# EAGLE library part TRF7970ARHBR (library TRF7970ARHBR)
Multi-Protocol Fully Integrated 13.56-MHz NFC / RFID Transceiver IC Source: Datasheet <https://www.ti.com/lit/ds/symlink/trf7970a.pdf?ts=1606905143859&ref_url=https%3A%2F%2Fwww.ti.com%2Fstore%2Fti%2Fen%2Fp%2Fproduct%2F%3Fp%3DTRF7970ARHBR%26keyMatch%3DTRF7970ARHBR%26tisearch%3DSearch-EN-everything%26usecase%>
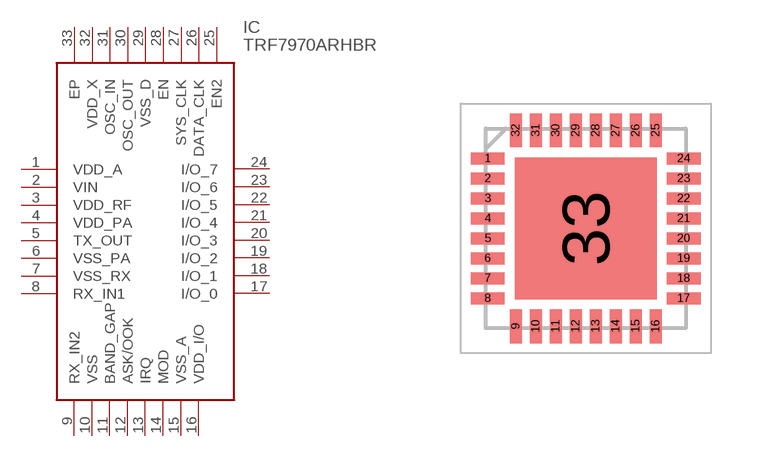
[diagram p0: symbol with the pads of QFN50P500X500X100-33N; footprint QFN50P500X500X100-33N]

Designator prefix IC

## TRF7970ARHBR (Description: Multi-Protocol Fully Integrated 13.56-MHz NFC / RFID Transceiver IC; Height: 1mm; Manufacturer_Name: Texas Instruments; Manufacturer_Part_Number: TRF7970ARHBR; Mouser_Part_Number: 595-TRF7970ARHBR; Mouser_Price-Stock: https://www.mouser.co.uk/ProductDetail/Texas-Instruments/TRF7970ARHBR?qs=4dGAZp5OGt8Af9zmAaD4OQ%3D%3D)  [QFN50P500X500X100-33N]
1  VDD_A
2  VIN
3  VDD_RF
4  VDD_PA
5  TX_OUT
6  VSS_PA
7  VSS_RX
8  RX_IN1
9  RX_IN2
10  VSS
11  BAND_GAP
12  ASK/OOK
13  IRQ
14  MOD
15  VSS_A
16  VDD_I/O
17  I/O_0
18  I/O_1
19  I/O_2
20  I/O_3
21  I/O_4
22  I/O_5
23  I/O_6
24  I/O_7
25  EN2
26  DATA_CLK
27  SYS_CLK
28  EN
29  VSS_D
30  OSC_OUT
31  OSC_IN
32  VDD_X
33  EP

## Footprint QFN50P500X500X100-33N (pad centres in mm)
RHB0032E
smd 0.85 x 0.3: 1 -2.45,1.75; 2 -2.45,1.25; 3 -2.45,0.75; 4 -2.45,0.25; 5 -2.45,-0.25; 6 -2.45,-0.75; 7 -2.45,-1.25; 8 -2.45,-1.75; 17 2.45,-1.75; 18 2.45,-1.25; 19 2.45,-0.75; 20 2.45,-0.25; 21 2.45,0.25; 22 2.45,0.75; 23 2.45,1.25; 24 2.45,1.75
smd 0.3 x 0.85: 9 -1.75,-2.45; 10 -1.25,-2.45; 11 -0.75,-2.45; 12 -0.25,-2.45; 13 0.25,-2.45; 14 0.75,-2.45; 15 1.25,-2.45; 16 1.75,-2.45; 25 1.75,2.45; 26 1.25,2.45; 27 0.75,2.45; 28 0.25,2.45; 29 -0.25,2.45; 30 -0.75,2.45; 31 -1.25,2.45; 32 -1.75,2.45
smd 3.55 x 3.55: 33 0,0